# Altium schematic symbol library HFBR-1523Z.SchLib: 1 symbol
Pins are listed as number, name and electrical type; pins without a type are passive.

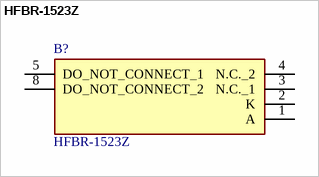
[diagram p0: symbol HFBR-1523Z]

## HFBR-1523Z
designator B?
FIBER OPTIC TRANSMITTER, 0.04Mbps, THROUGH HOLE MOUNT, DIP; Manufacturer_Name: Avago Technologies; Geometry.Height: 7.62mm; Mouser Part Number: 630-HFBR-1523Z; Mouser Price/Stock: https://www.mouser.co.uk/ProductDetail/Broadcom-Avago/HFBR-1523Z?qs=jT9z6tsiFNlmblhCFyzz5A%3D%3D; Manufacturer_Part_Number: HFBR-1523Z; Datasheet Link: https://docs.broadcom.com/doc/AV02-1501EN
footprint HFBR1523Z
pins: 1 A, 2 K, 3 N.C._1, 4 N.C._2, 5 DO_NOT_CONNECT_1, 8 DO_NOT_CONNECT_2